# EAGLE library part 74AC11861 (library 74ac-logic)
10-bit BUS BUFFER
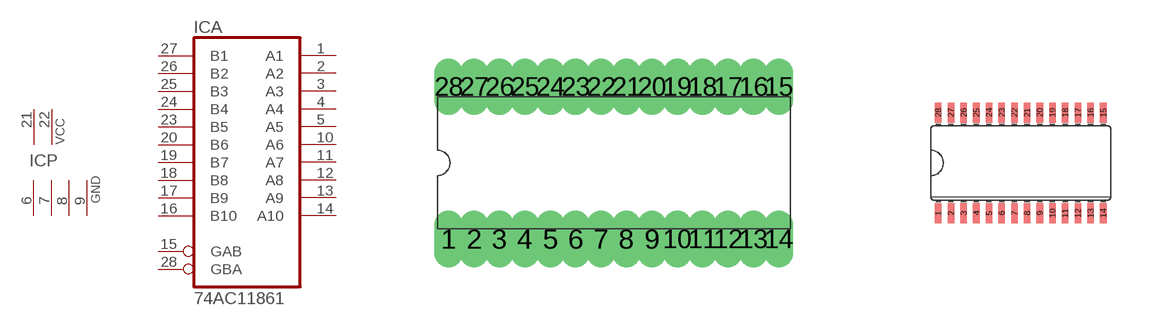
[diagram p60: symbol with the pads of DIL28-6; footprints DIL28-6, SO28W]

Designator prefix IC; gates A=7411861 P=2PWR4GND

## 74AC11861  [DIL28-6]
1  A:A1  hiz
2  A:A2  hiz
3  A:A3  hiz
4  A:A4  hiz
5  A:A5  hiz
6  P:GND  pwr
7  P:GND  pwr
8  P:GND  pwr
9  P:GND  pwr
10  A:A6  hiz
11  A:A7  hiz
12  A:A8  hiz
13  A:A9  hiz
14  A:A10  hiz
15  A:GAB  in
16  A:B10  in
17  A:B9  in
18  A:B8  in
19  A:B7  in
20  A:B6  in
21  P:VCC  pwr
22  P:VCC  pwr
23  A:B5  in
24  A:B4  in
25  A:B3  in
26  A:B2  in
27  A:B1  in
28  A:GBA  in

## 74AC11861D  [SO28W]
Pads as for DIL28-6

## Footprint DIL28-6 (pad centres in mm)
Dual In Line Package 0.6 inch
drill 0.203 long: 1 -4.128,-1.905; 2 -3.493,-1.905; 3 -2.857,-1.905; 4 -2.223,-1.905; 5 -1.587,-1.905; 6 -0.953,-1.905; 7 -0.318,-1.905; 8 0.318,-1.905; 9 0.953,-1.905; 10 1.587,-1.905; 11 2.223,-1.905; 12 2.857,-1.905; 13 3.493,-1.905; 14 4.128,-1.905; 15 4.128,1.905; 16 3.493,1.905; 17 2.857,1.905; 18 2.223,1.905; 19 1.587,1.905; 20 0.953,1.905; 21 0.318,1.905; 22 -0.318,1.905; 23 -0.953,1.905; 24 -1.587,1.905; 25 -2.223,1.905; 26 -2.857,1.905; 27 -3.493,1.905; 28 -4.128,1.905

## Footprint SO28W (pad centres in mm)
Wide Small Outline package 300 mil
smd 0.165 x 0.508: 1 -2.064,-1.257; 2 -1.746,-1.257; 3 -1.429,-1.257; 4 -1.111,-1.257; 5 -0.794,-1.257; 6 -0.476,-1.257; 7 -0.159,-1.257; 8 0.159,-1.257; 9 0.476,-1.257; 10 0.794,-1.257; 11 1.111,-1.257; 12 1.429,-1.257; 13 1.746,-1.257; 14 2.064,-1.257; 15 2.064,1.257; 16 1.746,1.257; 17 1.429,1.257; 18 1.111,1.257; 19 0.794,1.257; 20 0.476,1.257; 21 0.159,1.257; 22 -0.159,1.257; 23 -0.476,1.257; 24 -0.794,1.257; 25 -1.111,1.257; 26 -1.429,1.257; 27 -1.746,1.257; 28 -2.064,1.257